# Altium schematic symbol library SCH - DIODES - LED A-C.Schlib: 1 symbol
Pins are listed as number, name and electrical type; pins without a type are passive.

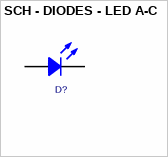
[diagram p0: symbol SCH - DIODES - LED A-C]

## SCH - DIODES - LED A-C
designator D?
footprint LED_0805
pins: A, C